# Altium schematic symbol library MISC.SchLib: 8 symbols
Pins are listed as number, name and electrical type; pins without a type are passive.

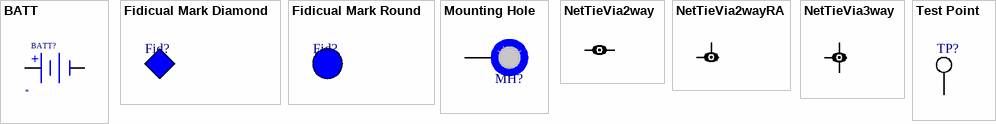
[diagram p0: symbols BATT to Test Point]

## BATT
designator BATT?
12MM SMD Coin Cell Retainer; Manufacturer Part Number: *
pins: 1 +, 2 -

## Fidicual Mark Diamond
designator Fid?  (value not drawn)  (no BOM)

## Fidicual Mark Round
designator Fid?  (value not drawn)  (no BOM)

## Mounting Hole
designator MH?  (value not drawn)  (no BOM)
Mounting Hole
pins: 1

## NetTieVia2way
designator NT?, comment Net Tie Via  (value not drawn)  (net tie, no BOM)
pins: 1, 2

## NetTieVia2wayRA
designator NT?, comment Net Tie Via  (value not drawn)  (net tie, no BOM)
pins: 1, 2

## NetTieVia3way
designator NT?, comment Net Tie Via  (value not drawn)  (net tie, no BOM)
pins: 1, 2, 3

## Test Point
designator TP?  (no BOM)
pins: 1 TP